# Altium footprint library 2.8inch_IPS_ESP32-S3_Display.PcbLib: 26 footprints (part 2 of 2)
Each footprint in its own frame and in the unit in brackets; x right, y up, seen from the top. Pads: shape width x height; smd on the part's side, far side on the other; paste and mask are expansions set on the pad; w line width, h text height; cw(c..) or ccw(c..) is an arc to the next point about the centre after c.
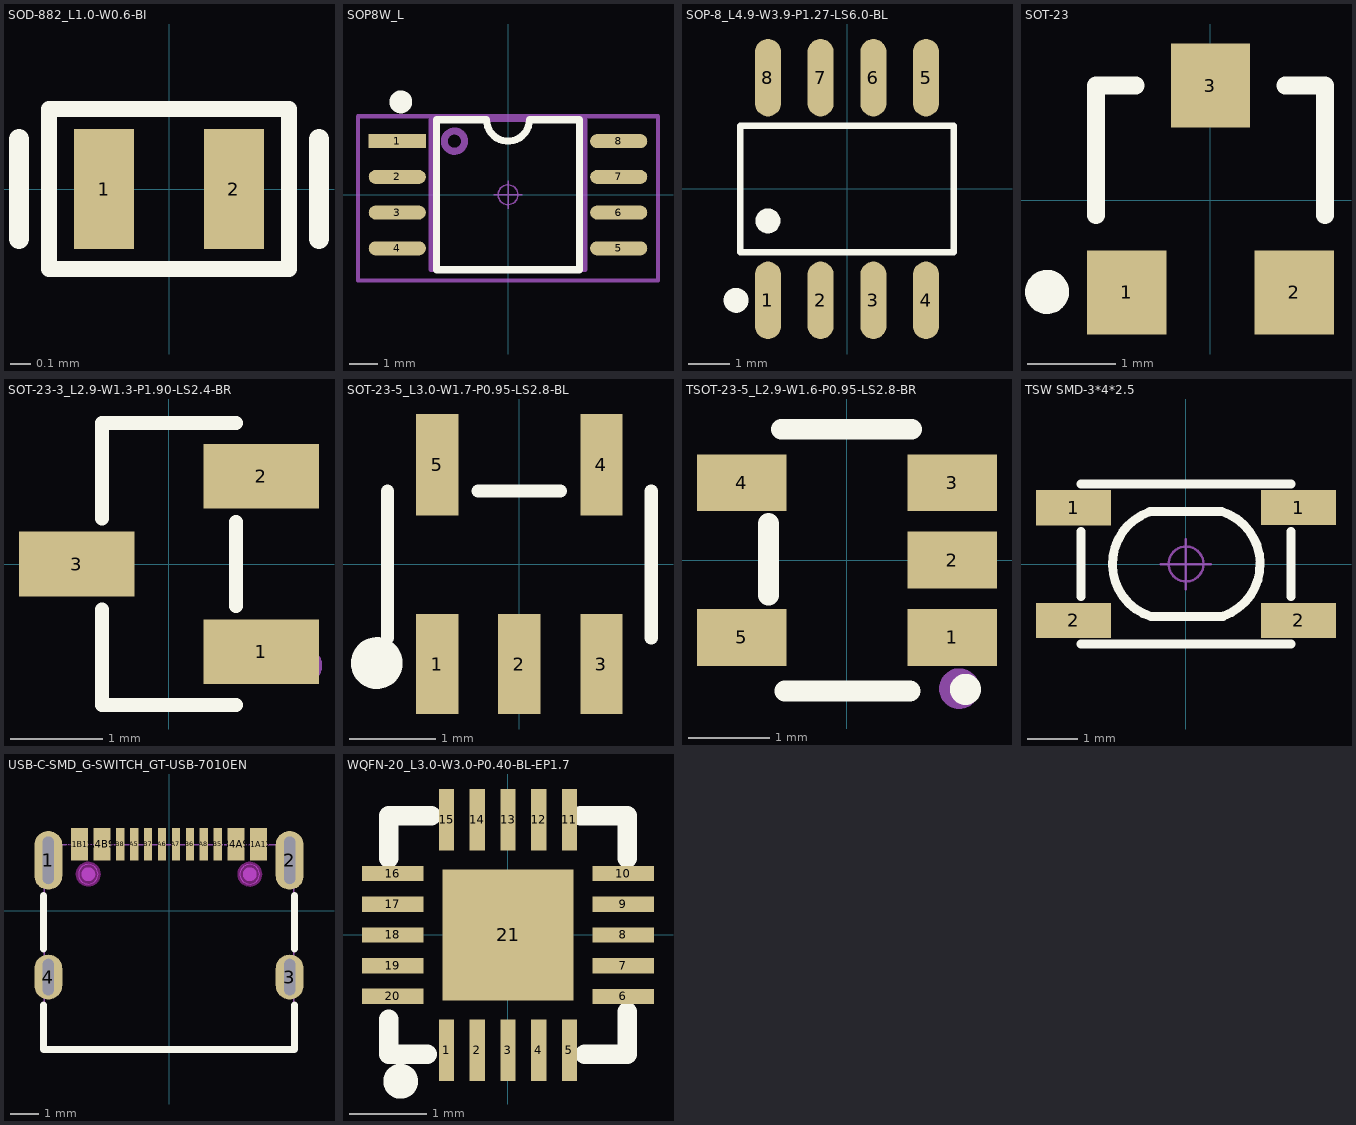
[diagram p1: the footprints below, top view; thin cyan lines are the x and y axes]

## SOD-882_L1.0-W0.6-BI [mm]
pads (2):
  rect 0.3x0.6 smd paste+0 mask+0.05: 1(-0.325,0) 2(0.325,0)
Top Overlay:
  lines w0.08: -0.6,-0.4 -0.6,0.4 0.6,0.4 0.6,-0.4 -0.6,-0.4
  lines w0.1: -0.75,-0.25 -0.75,0.25 ; 0.75,-0.25 0.75,0.25

## SOP8W_L [mm] "5.3*8.3*1.8mm（长宽高）"
pads (8):
  rect 2.032x0.5 smd: 1(-3.937,1.905)
  oval 2.032x0.5 smd: 2(-3.937,0.635) 3(-3.937,-0.635) 4(-3.937,-1.905) 5(3.937,-1.905) 6(3.937,-0.635) 7(3.937,0.635) 8(3.937,1.905)
Top Overlay:
  circle w0.5: c-3.81,3.302 r0.155
  lines w0.254: -2.54,-2.667 -2.54,2.667 -0.762,2.667 ccw(c0,2.667) 0.762,2.667 2.54,2.667 2.54,-2.667 -2.54,-2.667
Mechanical 13:
  circle w0.254: c-1.905,1.905 r0.359
  lines w0.15: -2.75,-2.667 2.75,-2.667 2.75,2.667 -2.75,2.667 -2.75,-2.667
Mechanical 15:
  circle w0.05: c0,0 r0.35
  lines w0.05: -0.5,0 0.5,0 ; 0,-0.5 0,0.5
  lines w0.15: -5.334,-3.048 -5.334,2.794 5.334,2.794 5.334,-3.048 -5.334,-3.048
3D body "SOP8W.STEP": height 1.9, standoff 0, extent -3.943,-2.64 3.943,2.64

## SOP-8_L4.9-W3.9-P1.27-LS6.0-BL [mm]
pads (8):
  oval 0.63x1.865 smd: 1(-1.905,-2.682) 2(-0.635,-2.682) 3(0.635,-2.682) 4(1.905,-2.682) 5(1.905,2.682) 6(0.635,2.682) 7(-0.635,2.682) 8(-1.905,2.682)
Top Overlay:
  circle w0.3: c-1.905,-0.769 r0.15
  circle w0.3: c-2.672,-2.682 r0.15
  lines w0.152: -2.576,-1.521 -2.576,1.521 2.576,1.521 2.576,-1.521 -2.576,-1.521

## SOT-23 [mm]
pads (3):
  rect 0.9x0.95 smd: 1(-0.95,-1.048) 2(0.95,-1.048) 3(0,1.302)
Top Overlay:
  circle w0.25: c-1.856,-1.041 r0.125
  lines w0.2: -1.3,-0.173 -1.3,1.302 -0.85,1.302 ; 0.85,1.302 1.3,1.302 1.3,-0.173
3D body "SOT-23-3.STEP": height 1.2, standoff 0, extent -1.448,-1.327 1.452,1.473

## SOT-23-3_L2.9-W1.3-P1.90-LS2.4-BR [mm]
pads (3):
  rect 1.25x0.7 smd: 1(1,-0.95) 2(1,0.95) 3(-1,0)
Top Overlay:
  lines w0.152: -0.726,-0.495 -0.726,-1.526 0.726,-1.526 ; -0.726,0.495 -0.726,1.526 0.726,1.526 ; 0.726,-0.455 0.726,0.455
Mechanical 15:
  circle w0.2: c1.46,-1.1 r0.1

## SOT-23-5_L3.0-W1.7-P0.95-LS2.8-BL [mm]
pads (5):
  rect 0.49x1.157 smd: 1(-0.95,-1.154) 2(0,-1.154) 3(0.95,-1.154)
  rect 0.49x1.175 smd: 4(0.95,1.154) 5(-0.95,1.154)
Top Overlay:
  circle w0.3: c-1.651,-1.143 r0.15
  lines w0.152: -1.526,-0.851 -1.526,0.851 ; -0.476,0.851 0.476,0.851 ; 1.526,-0.851 1.526,0.851

## TSOT-23-5_L2.9-W1.6-P0.95-LS2.8-BR [mm]
pads (5):
  rect 1.1x0.7 smd: 1(1.294,-0.951) 2(1.294,-0.001) 3(1.294,0.951) 4(-1.294,0.951) 5(-1.294,-0.949)
Top Overlay:
  circle w0.254: c1.456,-1.589 r0.064
  lines w0.254: -0.966,-0.433 -0.966,0.451 ; -0.806,1.609 0.794,1.609 ; -0.766,-1.609 0.774,-1.609
Mechanical 6:
  circle w0.25: c1.38,-1.58 r0.125

## TSW SMD-3*4*2.5 [mm] "3*4*2.5mm"
height 2.5
pads (4):
  rect 1.5x0.7 smd: 1(-2.25,1.125) 1(2.25,1.125) 2(-2.25,-1.125) 2(2.25,-1.125)
Top Overlay:
  lines w0.178: -2.1,-1.6 2.1,-1.6 ; -2.1,-0.65 -2.1,0.65 ; -2.1,1.6 2.1,1.6 ; -0.738,1.037 ccw(c-0.372,0) -0.7,-1.05 0.737,-1.05 ; -0.725,1.05 0.712,1.05 cw(c0.384,0) 0.75,-1.037 ; 2.1,-0.65 2.1,0.65
Mechanical 15:
  circle w0.05: c0,0 r0.35
  lines w0.05: -0.5,0 0.5,0 ; 0,-0.5 0,0.5

## USB-C-SMD_G-SWITCH_GT-USB-7010EN [mm]
pads (16):
  oval 1x2.1 hole 0.4 slot 1.7 at 90 deg mask+0.05: 1(-4.32,1.802) 2(4.32,1.802)
  oval 1x1.6 hole 0.4 slot 1.3 at 90 deg mask+0.05: 3(4.32,-2.378) 4(-4.32,-2.378)
  rect 0.6x1.15 smd mask+0.05: A1B12(-3.2,2.378) A4B9(-2.4,2.378) B1A12(3.2,2.378) B4A9(2.4,2.378)
  rect 0.3x1.15 smd mask+0.05: A5(-1.25,2.378) A6(-0.25,2.378) A7(0.25,2.378) A8(1.25,2.378) B5(1.75,2.378) B6(0.75,2.378) B7(-0.75,2.378) B8(-1.75,2.378)
Top Overlay:
  lines w0.254: -4.5,-3.386 -4.5,-4.978 4.5,-4.978 4.5,-3.386 ; -4.5,-1.369 -4.5,0.544 ; 4.5,-1.369 4.5,0.544
Top Paste:
  region: 3.82,2.352 3.82,2.452 3.896,2.636 4.037,2.776 4.221,2.852 4.42,2.852 4.603,2.776 4.744,2.636 4.82,2.452 4.82,2.352 4.82,1.252 4.82,1.153 4.744,0.969 4.603,0.829 4.42,0.752 4.221,0.752 4.037,0.829 3.896,0.969 3.82,1.153 3.82,1.252
  region: 3.82,-2.078 3.82,-1.978 3.896,-1.794 4.037,-1.654 4.221,-1.578 4.42,-1.578 4.603,-1.654 4.744,-1.794 4.82,-1.978 4.82,-2.078 4.82,-2.678 4.82,-2.777 4.744,-2.961 4.603,-3.101 4.42,-3.178 4.221,-3.178 4.037,-3.101 3.896,-2.961 3.82,-2.777 3.82,-2.678
  region: -4.82,-2.078 -4.82,-1.978 -4.744,-1.794 -4.603,-1.654 -4.419,-1.578 -4.221,-1.578 -4.037,-1.654 -3.896,-1.794 -3.82,-1.978 -3.82,-2.078 -3.82,-2.678 -3.82,-2.777 -3.896,-2.961 -4.037,-3.101 -4.221,-3.178 -4.419,-3.178 -4.603,-3.101 -4.744,-2.961 -4.82,-2.777 -4.82,-2.678
  region: -4.82,2.352 -4.82,2.452 -4.744,2.636 -4.603,2.776 -4.419,2.852 -4.221,2.852 -4.037,2.776 -3.896,2.636 -3.82,2.452 -3.82,2.352 -3.82,1.252 -3.82,1.153 -3.896,0.969 -4.037,0.829 -4.221,0.752 -4.419,0.752 -4.603,0.829 -4.744,0.969 -4.82,1.153 -4.82,1.252
  region: -3.5,2.952 -2.9,2.952 -2.9,1.802 -3.5,1.802
  region: -2.7,2.952 -2.1,2.952 -2.1,1.802 -2.7,1.802
  region: -1.9,2.952 -1.6,2.952 -1.6,1.802 -1.9,1.802
  region: -1.4,2.952 -1.1,2.952 -1.1,1.802 -1.4,1.802
  region: -0.9,2.952 -0.6,2.952 -0.6,1.802 -0.9,1.802
  region: -0.4,2.952 -0.1,2.952 -0.1,1.802 -0.4,1.802
  region: 0.1,2.952 0.4,2.952 0.4,1.802 0.1,1.802
  region: 0.6,2.952 0.9,2.952 0.9,1.802 0.6,1.802
  region: 1.1,2.952 1.4,2.952 1.4,1.802 1.1,1.802
  region: 1.6,2.952 1.9,2.952 1.9,1.802 1.6,1.802
  region: 2.1,2.952 2.7,2.952 2.7,1.802 2.1,1.802
  region: 2.9,2.952 3.5,2.952 3.5,1.802 2.9,1.802
Keep-Out Layer:
  board cut-out: -2.54,1.302 -2.54,1.372 -2.593,1.501 -2.692,1.599 -2.82,1.652 -2.96,1.652 -3.088,1.599 -3.187,1.501 -3.24,1.372 -3.24,1.302 -3.24,1.233 -3.187,1.104 -3.088,1.006 -2.96,0.952 -2.82,0.952 -2.692,1.006 -2.593,1.104 -2.54,1.233
  board cut-out: 3.24,1.302 3.24,1.372 3.187,1.5 3.088,1.599 2.96,1.652 2.82,1.652 2.692,1.599 2.593,1.5 2.54,1.372 2.54,1.302 2.54,1.232 2.593,1.104 2.692,1.005 2.82,0.952 2.96,0.952 3.088,1.005 3.187,1.104 3.24,1.232
Keep-Out Layer:
  circle w0.1: c2.893,1.305 r0.4
  circle w0.1: c-2.89,1.307 r0.4
Mechanical 1:
  circle w0.005: c-2.89,1.302 r0.35
  circle w0.005: c2.89,1.302 r0.35
Mechanical 6:
  circle w0.25: c2.89,1.302 r0.125
  circle w0.25: c-2.89,1.302 r0.125
Mechanical 15:
  region: -4.41,2.597 -4.41,2.622 -4.445,2.657 -4.495,2.657 -4.53,2.622 -4.53,2.597 -4.53,2.572 -4.495,2.537 -4.445,2.537 -4.41,2.572
  region: 4.17,-1.978 4.47,-1.978 4.47,-2.778 4.17,-2.778
  region: -4.47,-1.978 -4.17,-1.978 -4.17,-2.778 -4.47,-2.778
  region: -4.47,2.352 -4.17,2.352 -4.17,1.252 -4.47,1.252
  region: 4.17,2.352 4.47,2.352 4.47,1.252 4.17,1.252
  region: 1.65,2.597 1.85,2.597 1.85,1.847 1.65,1.847
  region: 1.15,2.597 1.35,2.597 1.35,1.847 1.15,1.847
  region: 0.65,2.597 0.85,2.597 0.85,1.847 0.65,1.847
  region: 0.15,2.597 0.35,2.597 0.35,1.847 0.15,1.847
  region: -0.35,2.597 -0.15,2.597 -0.15,1.847 -0.35,1.847
  region: -0.85,2.597 -0.65,2.597 -0.65,1.847 -0.85,1.847
  region: -1.35,2.597 -1.15,2.597 -1.15,1.847 -1.35,1.847
  region: -1.85,2.597 -1.65,2.597 -1.65,1.847 -1.85,1.847
  region: 3,2.597 3.4,2.597 3.4,1.847 3,1.847
  region: 2.2,2.597 2.6,2.597 2.6,1.847 2.2,1.847
  region: -2.6,2.597 -2.2,2.597 -2.2,1.847 -2.6,1.847
  region: -3.4,2.597 -3,2.597 -3,1.847 -3.4,1.847
  lines w0.051: -4.47,-4.983 4.47,-4.983 4.47,2.367 -4.47,2.367 -4.47,-4.983

## WQFN-20_L3.0-W3.0-P0.40-BL-EP1.7 [mm]
pads (21):
  rect 0.2x0.8 smd paste-100 mask+0.051: 1(-0.8,-1.5) 2(-0.4,-1.5) 3(0,-1.5) 4(0.4,-1.5) 5(0.8,-1.5) 11(0.8,1.5) 12(0.4,1.5) 13(0,1.5) 14(-0.4,1.5) 15(-0.8,1.5)
  rect 0.8x0.2 smd paste-100 mask+0.051: 6(1.5,-0.8) 7(1.5,-0.4) 8(1.5,0) 9(1.5,0.4) 10(1.5,0.8) 16(-1.5,0.8) 17(-1.5,0.4) 18(-1.5,0) 19(-1.5,-0.4) 20(-1.5,-0.8)
  rect 1.7x1.7 smd paste-100 mask+0.051: 21(0,0)
Top Overlay:
  circle w0.254: c-1.397,-1.905 r0.1
  lines w0.254: -1.55,-1.1 -1.55,-1.55 -1.05,-1.55 ; -1.55,1 -1.55,1.55 -1,1.55 ; 0.95,1.55 1.55,1.55 1.55,1 ; 1,-1.55 1.55,-1.55 1.55,-1
Top Paste:
  region: 0.68,0.68 0.68,-0.68 -0.68,-0.68 -0.68,0.68
  region: -1.1,0.7 -1.1,0.9 -1.9,0.9 -1.9,0.7
  region: -1.1,0.3 -1.1,0.5 -1.9,0.5 -1.9,0.3
  region: -1.1,-0.1 -1.1,0.1 -1.9,0.1 -1.9,-0.1
  region: -1.1,-0.5 -1.1,-0.3 -1.9,-0.3 -1.9,-0.5
  region: -1.1,-0.9 -1.1,-0.7 -1.9,-0.7 -1.9,-0.9
  region: 1.9,0.7 1.9,0.9 1.1,0.9 1.1,0.7
  region: 1.9,0.3 1.9,0.5 1.1,0.5 1.1,0.3
  region: 1.9,-0.1 1.9,0.1 1.1,0.1 1.1,-0.1
  region: 1.9,-0.5 1.9,-0.3 1.1,-0.3 1.1,-0.5
  region: 1.9,-0.9 1.9,-0.7 1.1,-0.7 1.1,-0.9
  region: -0.7,-1.1 -0.9,-1.1 -0.9,-1.9 -0.7,-1.9
  region: -0.3,-1.1 -0.5,-1.1 -0.5,-1.9 -0.3,-1.9
  region: 0.1,-1.1 -0.1,-1.1 -0.1,-1.9 0.1,-1.9
  region: 0.5,-1.1 0.3,-1.1 0.3,-1.9 0.5,-1.9
  region: 0.9,-1.1 0.7,-1.1 0.7,-1.9 0.9,-1.9
  region: -0.7,1.9 -0.9,1.9 -0.9,1.1 -0.7,1.1
  region: -0.3,1.9 -0.5,1.9 -0.5,1.1 -0.3,1.1
  region: 0.1,1.9 -0.1,1.9 -0.1,1.1 0.1,1.1
  region: 0.5,1.9 0.3,1.9 0.3,1.1 0.5,1.1
  region: 0.9,1.9 0.7,1.9 0.7,1.1 0.9,1.1